# Altium schematic symbol library M2.SchLib: 1 symbol
Pins are listed as number, name and electrical type; pins without a type are passive.

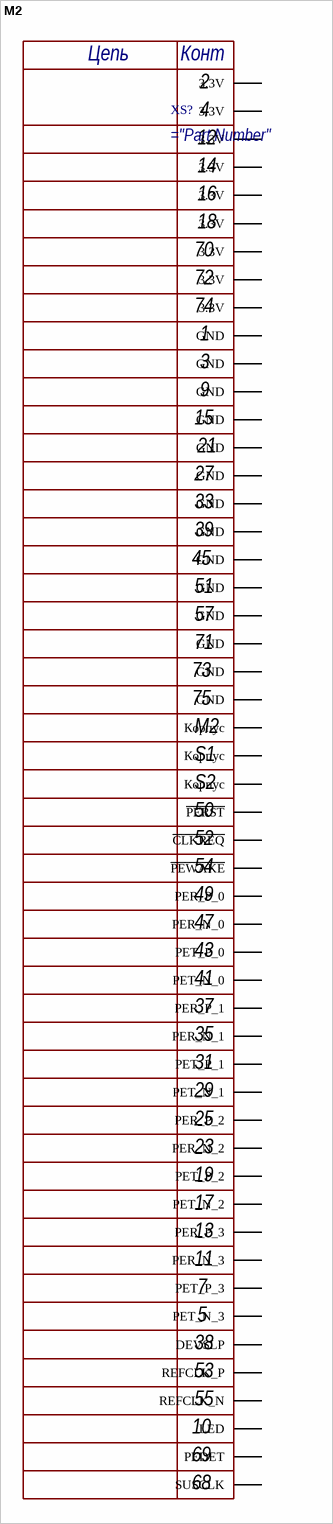
[diagram p0: symbol M2]

## M2
designator XS?
PCIe M.2 Connectors, Storage and Server Connector, P=0.5mm, H=3.2mm, Key M,Gold Plating
pins: 1 GND, 2 3.3V, 3 GND, 4 3.3V, 5 PET_N_3, 7 PET_P_3, 9 GND, 10 LED, 11 PER_N_3, 12 3.3V, 13 PER_P_3, 14 3.3V, 15 GND, 16 3.3V, 17 PET_N_2, 18 3.3V, 19 PET_P_2, 21 GND, 23 PER_N_2, 25 PER_P_2, 27 GND, 29 PET_N_1, 31 PET_P_1, 33 GND, 35 PER_N_1, 37 PER_P_1, 38 DEVSLP, 39 GND, 41 PET_N_0, 43 PET_P_0, 45 GND, 47 PER_N_0, 49 PER_P_0, 50 ~{PERST}, 51 GND, 52 ~{CLKREQ}, 53 REFCLK_P, 54 ~{PEWAKE}, 55 REFCLK_N, 57 GND, 68 SUSCLK, 69 PEDET, 70 3.3V, 71 GND, 72 3.3V, 73 GND, 74 3.3V, 75 GND, M2 Корпус, S1 Корпус, S2 Корпус
text: Цепь; Конт